# Altium schematic symbol library ESTEEMPCBLIB.SchLib: 601 symbols (part 5 of 5)
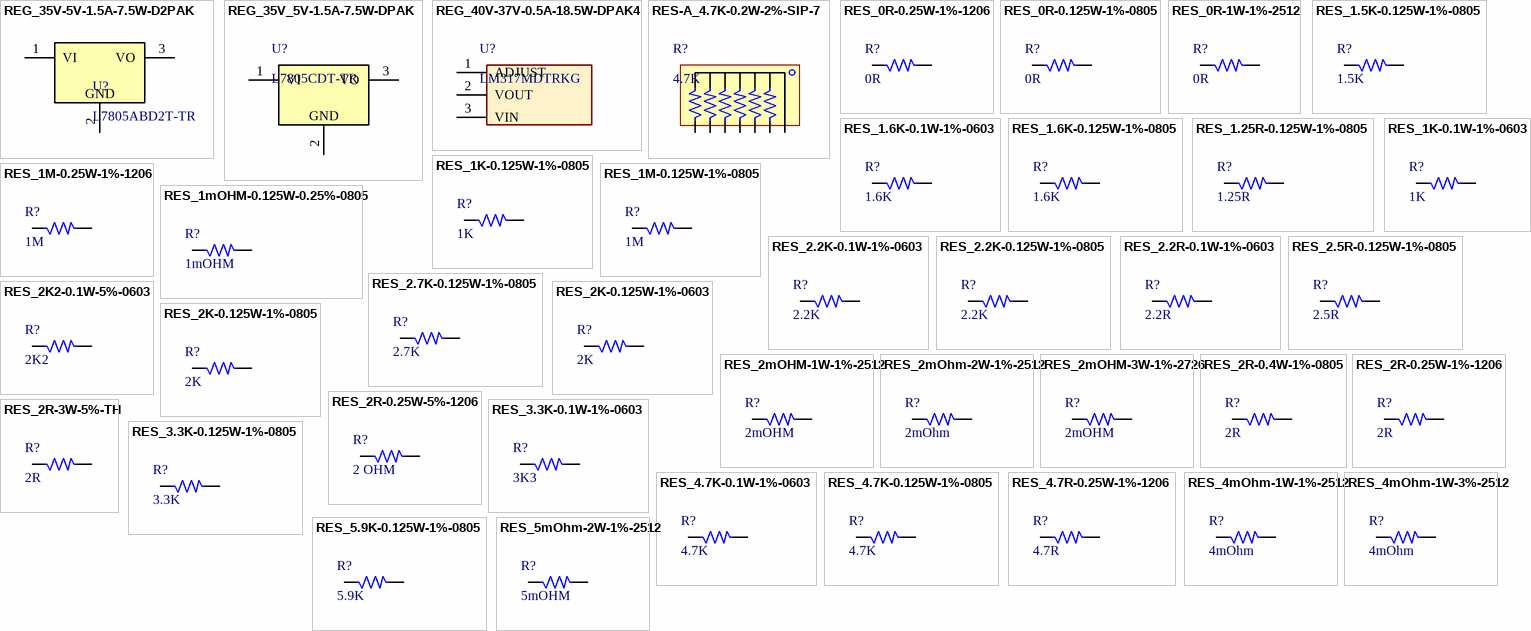
[diagram p20: symbols REG_35V-5V-1.5A-7.5W-D2PAK to RES_5mOhm-2W-1%-2512]

## RES_2.7K-0.125W-1%-0805
designator R?, comment 2.7K
2.7 kOhms ±1% 0.125W, 1/8W Chip Resistor 0805 (2012 Metric) Thick Film; Manufacturer: Stackpole Electronics; Manufacturer Part Number: 1623181-1; Alternate Part Number-1: NA; Case/Package: 0805; Supplier-1: SIRICOM; Supplier Part Number-1: WR08X2701FTL
footprint RES_0805 (Resister)
pins: 1, 2

## RES_2K2-0.1W-5%-0603
designator R?, comment 2K2
2.2 kOhms ±5% 0.1W, 1/10W Chip Resistor 0603 (1608 Metric) Automotive AEC-Q200 Thick Film; Manufacturer: Stackpole Electronics; Manufacturer Part Number: ERJ-3GEYJ222V; Alternate Part Number-1: WR06X2201FTL; Case/Package: 0603; Supplier-1: SIRICOM; Supplier Part Number-1: WR06X2201FTL
footprint RES_0603
pins: 1, 2

## RES_2K-0.125W-1%-0603
designator R?, comment 2K
2 kOhms ±1% 0.125W, 1/8W Chip Resistor 0603 (1608 Metric) Anti-Sulfur, Moisture Resistant Thin Film; Manufacturer: Stackpole Electronics; Manufacturer Part Number: RNCP0603FTD2K00; Alternate Part Number-1: NA; Case/Package: 0603; Supplier-1: SIRICOM; Supplier Part Number-1: WR06X2001FTL
footprint RES_0603
pins: 1, 2

## RES_2K-0.125W-1%-0805
designator R?, comment 2K
2 kOhms ±1% 0.125W, 1/8W Chip Resistor 0805 (2012 Metric) Moisture Resistant Thick Film; Manufacturer: TE Connectivity; Manufacturer Part Number: RC0805FR-072KL; Alternate Part Number-1: NA; Case/Package: 0805; Supplier-1: SIRICOM; Supplier Part Number-1: WR08X2001FTL
footprint RES_0805
pins: 1, 2

## RES_2mOHM-1W-1%-2512
designator R?, comment 2mOHM
0.002Ohms 3W 1% 2512 Current Sense Resistors - SMD; Manufacturer: Johanson; Manufacturer Part Number: RNC20EQ00R002FE; Alternate Part Number-1: NA; Case/Package: 2512; Supplier-1: Siricom; Supplier Part Number-1: NA
footprint RES_2512 (CASE: 2512)
pins: 1, 2

## RES_2mOhm-2W-1%-2512
designator R?, comment 2mOhm
0.002 Ohm 1% 2W Res Metal Strip 2512 ±100ppm/°C Pad SMD T/R; Manufacturer: NIC Components; Manufacturer Part Number: NCSS25EFR002TRNF; Alternate Part Number-1: NA; Case/Package: 2512; Supplier-1: Arrow; Supplier Part Number-1: NCSS25EFR002TRNF
footprint RES_2512 (CASE: 2512)
pins: 1, 2

## RES_2mOHM-3W-1%-2726
designator R?, comment 2mOHM
2 mOhms ±1% 3W Chip Resistor Nonstandard Anti-Sulfur, Automotive AEC-Q200, Current Sense, Moisture Resistant, Pulse Withstanding Metal Element; Manufacturer: TE Connectivity; Manufacturer Part Number: WSL27262L000FEB; Alternate Part Number-1: NA; Case/Package: 2726; Supplier-1: Mouser; Supplier Part Number-1: 71-WSL27262L000FEB
footprint RES_2726
pins: 1, 2

## RES_2R-0.4W-1%-0805
designator R?, comment 2R
2 Ohms ±1% 0.4W, 2/5W Chip Resistor 0805 (2012 Metric) Automotive AEC-Q200, Pulse Withstanding Thick Film; Manufacturer: Bourns; Manufacturer Part Number: ESR10EZPF2R00; Alternate Part Number-1: NA; Case/Package: 0805; Supplier-1: SIRICOM; Supplier Part Number-1: WR08W2R00FTL
footprint RES_0805
pins: 1, 2

## RES_2R-0.25W-1%-1206
designator R?, comment 2R
2 Ohms ±1% 0.25W, 1/4W Chip Resistor 1206 (3216 Metric) Moisture Resistant Thick Film; Manufacturer: Stackpole Electronics; Manufacturer Part Number: RC1206FR-072RL; Alternate Part Number-1: NA; Case/Package: 1206; Supplier-1: SP ROAD; Supplier Part Number-1: RC1206FR-072RL
footprint RES_1206
pins: 1, 2

## RES_2R-0.25W-5%-1206
designator R?, comment 2 OHM
2 Ohms ±5% 0.25W, 1/4W Chip Resistor 1206 (3216 Metric) Automotive AEC-Q200 Thick Film; Manufacturer: Stackpole Electronics; Manufacturer Part Number: ERJ-8GEYJ2R0V; Alternate Part Number-1: NA; Case/Package: 1206; Supplier-1: SIRICOM; Supplier Part Number-1: WR12X2R2JTL
footprint RES_1206
pins: 1, 2

## RES_2R-3W-5%-TH
designator R?, comment 2R
2 Ohms ±5% 3W Through Hole Resistor Axial Flame Retardant Coating, Pulse Withstanding, Safety Wirewound; Manufacturer: Riedon; Manufacturer Part Number: AC03000002008JAC00; Alternate Part Number-1: NA; Case/Package: TH; Supplier-1: SP ROAD; Supplier Part Number-1: AC03000002008JAC00
footprint RES_753_TH
footprint RES_753_TH_INDC
pins: 1, 2

## RES_3.3K-0.1W-1%-0603
designator R?, comment 3K3
3.3 kOhms ±1% 0.1W, 1/10W Chip Resistor 0603 (1608 Metric) Automotive AEC-Q200 Thick Film; Manufacturer: Wilson; Manufacturer Part Number: WR06X3301FTL; Alternate Part Number-1: 0603WAF3301T5E; Case/Package: 0603; Supplier-1: SIRICOM; Supplier Part Number-1: WR06X3301FTL
footprint RES_0603
pins: 1, 2

## RES_3.3K-0.125W-1%-0805
designator R?, comment 3.3K
3.3 kOhms ±1% 0.125W, 1/8W Chip Resistor 0805 (2012 Metric) Thick Film; Manufacturer: Panasonic; Manufacturer Part Number: 1623214-1; Alternate Part Number-1: 0805W8F3301T5E; Case/Package: 0805; Supplier-1: SIRICOM; Supplier Part Number-1: WR08X3301FTL
footprint RES_0805
pins: 1, 2

## RES_4.7K-0.1W-1%-0603
designator R?, comment 4.7K
4.7 kOhms ±1% 0.1W, 1/10W Chip Resistor 0603 (1608 Metric) Moisture Resistant Thick Film; Manufacturer: Walsin; Manufacturer Part Number: WR06X4701FTL; Alternate Part Number-1: MR06X4701FTL; Case/Package: 0603; Supplier-1: SIRICOM; Supplier Part Number-1: WR06X4701FTL
footprint RES_0603
pins: 1, 2

## RES_4.7K-0.125W-1%-0805
designator R?, comment 4.7K
4.7 kOhms ±1% 0.125W, 1/8W Chip Resistor 0805 (2012 Metric) Moisture Resistant Thick Film; Manufacturer: TE Connectivity; Manufacturer Part Number: RC0805FR-074K7L; Alternate Part Number-1: 0805W8F4701T5E; Case/Package: 0805; Supplier-1: SIRICOM; Supplier Part Number-1: WR08X4701FTL
footprint RES_0805
pins: 1, 2

## RES_4.7R-0.25W-1%-1206
designator R?, comment 4.7R
4.7 Ohms ±1% 0.25W, 1/2W Chip Resistor 1206 (3216 Metric) Current Sense Thin Film; Manufacturer: Walsin; Manufacturer Part Number: WR12W4R70FTL; Alternate Part Number-1: NA; Case/Package: 1206; Supplier-1: SIRICOM; Supplier Part Number-1: WR12W4R70FTL
footprint RES_1206
pins: 1, 2

## RES_4mOhm-1W-1%-2512
designator R?, comment 4mOhm
0.004 Ohm Res Metal Plate 2512  1% 1W ±75ppm/°C Pad SMD Automotive T/R; Manufacturer: Panasonic; Manufacturer Part Number: ERJMP4MF4M0U; Alternate Part Number-1: NA; Case/Package: 2512; Supplier-1: Arrow; Supplier Part Number-1: ERJMP4MF4M0U
footprint RES_2512 (CASE: 2512)
pins: 1, 2

## RES_4mOhm-1W-3%-2512
designator R?, comment 4mOhm
0.004 Ohm 3% Res Metal Strip 2512  1W ±100ppm/°C Pad SMD T/R; Manufacturer: NIC Components; Manufacturer Part Number: NCSR100HR004ETRF; Alternate Part Number-1: NA; Case/Package: 2512; Supplier-1: Arrow; Supplier Part Number-1: NCSR100HR004ETRF
footprint RES_2512 (CASE: 2512)
pins: 1, 2

## RES_5.9K-0.125W-1%-0805
designator R?, comment 5.9K
5.9 kOhms ±1% 0.125W, 1/8W Chip Resistor 0805 (2012 Metric) Moisture Resistant Thick Film; Manufacturer: Stackpole Electronics; Manufacturer Part Number: RC0805FR-075K9L; Alternate Part Number-1: NA; Case/Package: 0805; Supplier-1: SIRICOM; Supplier Part Number-1: WR08X5901FTL
footprint RES_0805 (Resister)
pins: 1, 2

## RES_5mOhm-2W-1%-2512
designator R?, comment 5mOHM
5 mOhms ±1% 2W Chip Resistor 2512 (6432 Metric) Automotive AEC-Q200, Current Sense Thick Film; Manufacturer: TE Connectivity; Manufacturer Part Number: PMR100HZPFU5L00; Alternate Part Number-1: MSH2512N2W0R005F; Case/Package: 2512; Supplier-1: ARROW; Supplier Part Number-1: PMR100HZPFU5L00
footprint RES_2512
pins: 1, 2

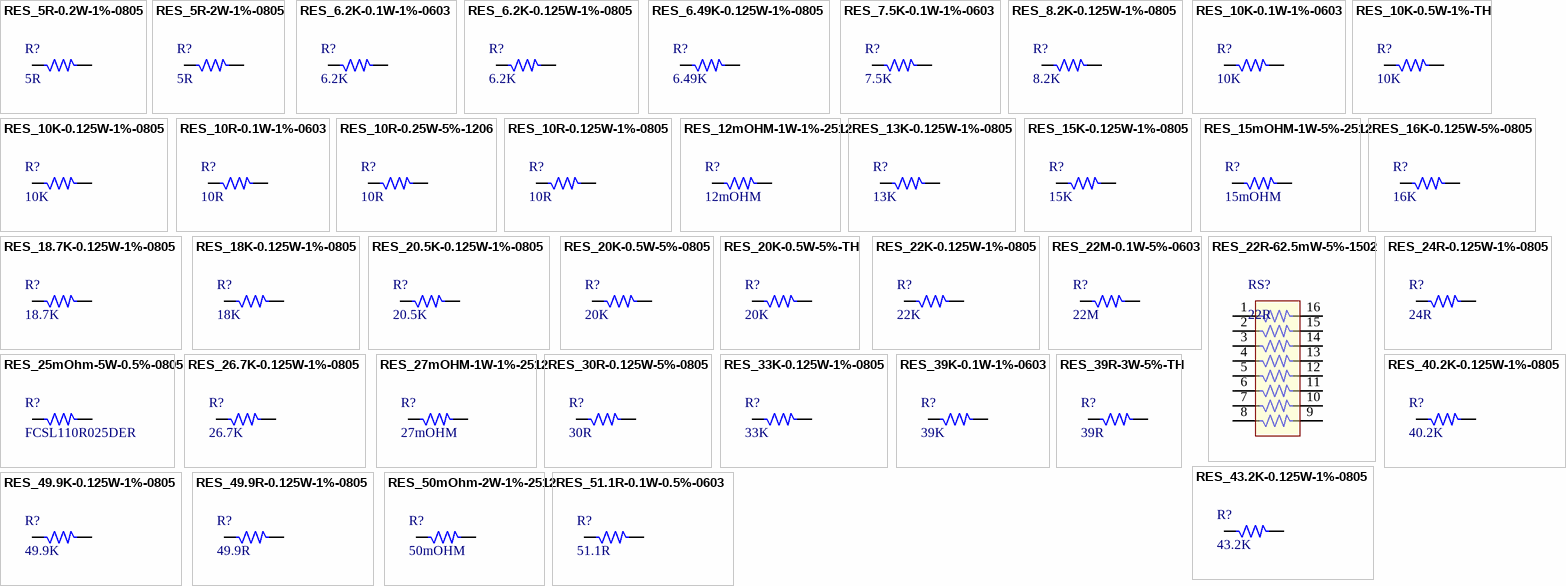
[diagram p14: symbols RES_5R-0.2W-1%-0805 to RES_51.1R-0.1W-0.5%-0603]

## RES_5R-0.2W-1%-0805
designator R?, comment 5R
5 Ohms ±1% 0.2W, 1/5W Chip Resistor 0805 (2012 Metric) Moisture Resistant, Non-Inductive Metal Foil; Manufacturer: Yageo; Manufacturer Part Number: Y16245R00000F9W; Alternate Part Number-1: NA; Case/Package: 0805; Supplier-1: SIRICOM; Supplier Part Number-1: WR08W5R10FTL
footprint RES_0805
pins: 1, 2

## RES_5R-2W-1%-0805
designator R?, comment 5R
5 Ohm 1% 300PPM Thin Film Resistors - SMD; Manufacturer: Panasonic; Manufacturer Part Number: L-0805M5R00FGTS; Alternate Part Number-1: NA; Case/Package: 0805; Supplier-1: SIRICOM; Supplier Part Number-1: WR08W5R10FTL
footprint RES_0805
pins: 1, 2

## RES_6.2K-0.1W-1%-0603
designator R?, comment 6.2K
6.2 kOhms ±1% 0.1W, 1/10W Chip Resistor 0603 (1608 Metric) Moisture Resistant Thick Film; Manufacturer: Walsin; Manufacturer Part Number: WR06X6201FTL; Alternate Part Number-1: 0603WAF6201T5E; Case/Package: 0603; Supplier-1: SIRICOM; Supplier Part Number-1: WR06X6201FTL
footprint RES_0603
pins: 1, 2

## RES_6.2K-0.125W-1%-0805
designator R?, comment 6.2K
6.2 kOhms ±1% 0.125W, 1/8W Chip Resistor 0805 (2012 Metric) Moisture Resistant Thick Film; Manufacturer: Stackpole Electronics; Manufacturer Part Number: RC0805FR-076K2L; Alternate Part Number-1: NA; Case/Package: 0805; Supplier-1: SIRICOM; Supplier Part Number-1: WR06X6201FTL
footprint RES_0805
pins: 1, 2

## RES_6.49K-0.125W-1%-0805
designator R?, comment 6.49K
6.49 kOhms ±1% 0.125W, 1/8W Chip Resistor 0805 (2012 Metric) Moisture Resistant Thick Film; Manufacturer: Stackpole Electronics; Manufacturer Part Number: RC0805FR-076K49L; Alternate Part Number-1: NA; Case/Package: 0805; Supplier-1: SIRICOM; Supplier Part Number-1: WRO8X6491FTL
footprint RES_0805 (Resister)
pins: 1, 2

## RES_7.5K-0.1W-1%-0603
designator R?, comment 7.5K
7.5 kOhms ±1% 0.1W, 1/10W Chip Resistor 0603 (1608 Metric) Moisture Resistant Thick Film; Manufacturer: Yageo; Manufacturer Part Number: RC0603FR-077K5L; Alternate Part Number-1: NA; Case/Package: 0603; Supplier-1: SIRICOM; Supplier Part Number-1: NA
footprint RES_0603 (CASE: 0603)
pins: 1, 2

## RES_8.2K-0.125W-1%-0805
designator R?, comment 8.2K
8.2 kOhms ±1% 0.125W, 1/8W Chip Resistor 0805 (2012 Metric) Anti-Sulfur, Moisture Resistant, Non-Inductive Metal Foil; Manufacturer: Walsin; Manufacturer Part Number: WR08X8201FTL; Alternate Part Number-1: NA; Case/Package: 0805; Supplier-1: SIRICOM; Supplier Part Number-1: WR08X8061FTL
footprint RES_0805
pins: 1, 2

## RES_10K-0.1W-1%-0603
designator R?, comment 10K
10 kOhms ±1% 0.1W, 1/10W Chip Resistor 0603 (1608 Metric) Automotive AEC-Q200 Thick Film; Manufacturer: Walsin; Manufacturer Part Number: WR06X1002FTL; Alternate Part Number-1: 0603WAJ0103T5E; Case/Package: 0603; Supplier-1: SIRICOM; Supplier Part Number-1: WR06X1002FTL
footprint RES_0603
pins: 1, 2

## RES_10K-0.5W-1%-TH
designator R?, comment 10K
10 kOhms ±1% 0.5W, 1/2W Through Hole Resistor Axial Metal Film / AXIAL; Manufacturer: Vishay BCcomponents; Manufacturer Part Number: SFR16S0001002FR500; Alternate Part Number-1: NA; Supplier 1: Digi-Key; Case/Package: Axial; ComponentLink1URL: https://datasheet.ciiva.com/28561/1911160-28561605.pdf?src-supplier=Element14; ComponentLink1Description: https://datasheet.ciiva.com/28561/1911160-28561605.pdf?src-supplier=Element14; ComponentLink2URL: https://datasheet.ciiva.com/16720/70122463-16720294.pdf?src-supplier=Allied+Electronics; ComponentLink2Description: https://datasheet.ciiva.com/16720/70122463-16720294.pdf?src-supplier=Allied+Electronics; ComponentLink3URL: https://datasheet.ciiva.com/2710/sfr16s25-2710487.pdf?src-supplier=Digi-Key; ComponentLink3Description: https://datasheet.ciiva.com/2710/sfr16s25-2710487.pdf?src-supplier=Digi-Key; ComponentLink4URL: https://datasheet.ciiva.com/2710/sfr16s25-2710488.pdf?src-supplier=Digi-Key; ComponentLink4Description: https://datasheet.ciiva.com/2710/sfr16s25-2710488.pdf?src-supplier=Digi-Key; ComponentLink5URL: https://datasheet.ciiva.com/7182/1819489-7182845.pdf?src-supplier=Newark; ComponentLink5Description: https://datasheet.ciiva.com/7182/1819489-7182845.pdf?src-supplier=Newark; ComponentLink6URL: https://datasheet.ciiva.com/16291/sfr16s25-16291262.pdf?src-supplier=Future+Electronics; ComponentLink6Description: https://datasheet.ciiva.com/16291/sfr16s25-16291262.pdf?src-supplier=Future+Electronics; ComponentLink7URL: https://datasheet.ciiva.com/3260/sfr16s25-3260959.pdf?src-supplier=Avnet; ComponentLink7Description: https://datasheet.ciiva.com/3260/sfr16s25-3260959.pdf?src-supplier=Avnet; Supplier Part Number-1: PPC10.0KXCT-ND; Supplier-1: SIRICOM
footprint RES_753_TH_INDC (CASE: TH)
pins: 1, 2

## RES_10K-0.125W-1%-0805
designator R?, comment 10K
10 kOhms ±1% 0.125W, 1/8W Chip Resistor 0805 (2012 Metric) Automotive AEC-Q200 Thick Film; Manufacturer: CTS; Manufacturer Part Number: WR08X1002FTL; Case/Package: 0805; Supplier-1: SIRICOM; Supplier Part Number-1: WR08X1002FTL; Alternate Part Number-1: WR08X1002FTL
footprint RES_0805
pins: 1, 2

## RES_10R-0.1W-1%-0603
designator R?, comment 10R
10 Ohms ±1% 0.1W, 1/10W Chip Resistor 0603 (1608 Metric) Automotive AEC-Q200, Moisture Resistant Thick Film; Manufacturer: Walsin; Manufacturer Part Number: WR06X10R0FTL; Alternate Part Number-1: RS-03K10R0FT; Case/Package: 0603; Supplier-1: SIRICOM; Supplier Part Number-1: WR06X10R0FTL
footprint RES_0603
pins: 1, 2

## RES_10R-0.25W-5%-1206
designator R?, comment 10R
10 Ohms ±5% 0.25W, 1/4W Chip Resistor 1206 (3216 Metric) Automotive AEC-Q200 Thick Film; Manufacturer: Yageo; Manufacturer Part Number: RMCF1206JT10R0; Alternate Part Number-1: NA; Case/Package: 1206; Supplier-1: SIRICOM; Supplier Part Number-1: WR12X10R0FTL
footprint RES_1206
pins: 1, 2

## RES_10R-0.125W-1%-0805
designator R?, comment 10R
10 Ohms ±1% 0.125W, 1/8W Chip Resistor 0805 (2012 Metric) Automotive AEC-Q200 Thick Film; Manufacturer: Walsin; Manufacturer Part Number: WR08X10R0FTL; Alternate Part Number-1: CR0805F810R0G; Case/Package: 0805; Supplier-1: SIRICOM; Supplier Part Number-1: WR08X10R0FTL
footprint RES_0805
pins: 1, 2

## RES_12mOHM-1W-1%-2512
designator R?, comment 12mOHM
12 mOhms ±1% 1W Chip Resistor 2512 (6432 Metric) Automotive AEC-Q200, Current Sense, Moisture Resistant Thick Film; Manufacturer: Yageo; Manufacturer Part Number: RL2512FK-070R012L; Alternate Part Number-1: 25121WJ012LT4E; Case/Package: 2512; Supplier-1: SIRICOM; Supplier Part Number-1: WW25NR015FTL
footprint RES_2512 (CASE: 2512)
pins: 1, 2

## RES_13K-0.125W-1%-0805
designator R?, comment 13K
13 kOhms ±1% 0.125W, 1/8W Chip Resistor 0805 (2012 Metric) Thick Film; Manufacturer: TE Connectivity Passive Product; Manufacturer Part NUMMBER: CRG0805F13K; Manufacturer Part Number: NA; Case/Package: 0805; Supplier-1: Siricom; Supplier Part Number-1: NA; Alternate Part Number-1: NA
footprint RES_0805 (Resister)
pins: 1, 2

## RES_15K-0.125W-1%-0805
designator R?, comment 15K
15 kOhms ±1% 0.125W, 1/8W Chip Resistor 0805 (2012 Metric) Moisture Resistant Thick Film; Manufacturer: Walsin; Manufacturer Part Number: WR08X1502FTL; Alternate Part Number-1: NA; Case/Package: 0805; Supplier-1: SIRICOM; Supplier Part Number-1: WR08X1502FTL
footprint RES_0805
pins: 1, 2

## RES_15mOHM-1W-5%-2512
designator R?, comment 15mOHM
15 MOhms ±5% 1W Chip Resistor 2512 (6432 Metric) High Voltage, Non-Magnetic Thick Film; Manufacturer: Yageo; Manufacturer Part Number: HVS2512-15MJ8; Alternate Part Number-1: NA; Case/Package: 2512; Supplier-1: SIRICOM; Supplier Part Number-1: WW25NR015FTL
footprint RES_2512
pins: 1, 2

## RES_16K-0.125W-5%-0805
designator R?, comment 16K
16 kOhms ±5% 0.125W, 1/8W Chip Resistor 0805 (2012 Metric) Moisture Resistant Thick Film; Manufacturer: Panasonic; Manufacturer Part Number: RC0805JR-0716KL; Alternate Part Number-1: NA; Case/Package: 0805; Supplier-1: SIRICOM; Supplier Part Number-1: WR08X1502FTL
footprint RES_0805
pins: 1, 2

## RES_18.7K-0.125W-1%-0805
designator R?, comment 18.7K
18.7 kOhms ±1% 0.125W, 1/8W Chip Resistor 0805 (2012 Metric) Automotive AEC-Q200 Thick Film; Manufacturer: Yageo; Manufacturer Part Number: RMCF0805FT18K7; Alternate Part Number-1: NA; Case/Package: 0805; Supplier-1: SIRICOM; Supplier Part Number-1: WR08X1872FTL
footprint RES_0805 (Resister)
pins: 1, 2

## RES_18K-0.125W-1%-0805
designator R?, comment 18K
18 kOhms ±1% 0.125W, 1/8W Chip Resistor 0805 (2012 Metric) Thick Film; Manufacturer: TE Connectivity Passive Product; Manufacturer Part Number: CRG0805F18K; Alternate Part Number-1: NA; Case/Package: 0805; Supplier-1: SIRICOM; Supplier Part Number: NA; Supplier Part Number-1: NA
footprint RES_0805 (Resister)
pins: 1, 2

## RES_20.5K-0.125W-1%-0805
designator R?, comment 20.5K
20.5 kOhms ±1% 0.125W, 1/8W Chip Resistor 0805 (2012 Metric) Moisture Resistant Thick Film; Manufacturer: Vishay; Manufacturer Part Number: RC0805FR-0720K5L; Alternate Part Number-1: NA; Case/Package: 0805; Supplier-1: SIRICOM; Supplier Part Number-1: WR08X2052FTL
footprint RES_0805 (Resister)
pins: 1, 2

## RES_20K-0.5W-5%-0805
designator R?, comment 20K
20 kOhms ±5% 0.5W, 1/2W Chip Resistor 0805 (2012 Metric) Automotive AEC-Q200, Pulse Withstanding Thick Film; Manufacturer: Panasonic; Manufacturer Part Number: ERJ-P06J203V; Alternate Part Number-1: NA; Case/Package: 0805; Supplier-1: SIRICOM; Supplier Part Number-1: WR08X2002FTL
footprint RES_0805
pins: 1, 2

## RES_20K-0.5W-5%-TH
designator R?, comment 20K
20 kOhms ±5% 0.5W, 1/2W Through Hole Resistor Axial Flame Retardant Coating, Safety Carbon Film; Manufacturer: Rohm; Manufacturer Part Number: CFM12JT20K0; Alternate Part Number-1: NA; Case/Package: TH; Supplier-1: SP ROAD; Supplier Part Number-1: CFM12JT20K0
footprint RES_393_TH (RESISTER)
pins: 1, 2

## RES_22K-0.125W-1%-0805
designator R?, comment 22K
22 kOhms ±1% 0.125W, 1/8W Chip Resistor 0805 (2012 Metric) Automotive AEC-Q200 Thick Film; Manufacturer: Walsin; Manufacturer Part Number: WR08X2202FTL; Alternate Part Number-1: NA; Case/Package: 0805; Supplier-1: SIRICOM; Supplier Part Number-1: WR08X2202FTL
footprint RES_0805
pins: 1, 2

## RES_22M-0.1W-5%-0603
designator R?, comment 22M
22M ±5% 1/10W ±100ppm/°C 0603 Chip Resistor - Surface Mount RoHS; Manufacturer: UNI-ROYAL(Uniroyal Elec); Manufacturer Part Number: 0603WAJ0226T5E; Alternate Part Number-1: NA; Case/Package: 0603; Supplier-1: LCSC; Supplier Part Number-1: C33143
footprint RES_0603 (CASE: 0603)
pins: 1, 2

## RES_22R-62.5mW-5%-1502
designator RS?, comment 22R
22 Ohm ±5% 62.5mW Power Per Element Isolated Resistor Network/Array ±200ppm/°C 1506, Convex, Long Side Terminals; Manufacturer: Riedon; Manufacturer Part Number: 741X163220JP; Alternate Part Number-1: NA; Case/Package: 1502; Supplier-1: SIRICOM; Supplier Part Number-1: WR12X22R0FTL
footprint RES_1506 (RES-ARRAY)
pins: 1, 2, 3 1, 4 1, 5 1, 6 1, 7 1, 8 1, 9 2, 10 2, 11 2, 12 2, 13 2, 14 2, 15 2, 16 2

## RES_24R-0.125W-1%-0805
designator R?, comment 24R
24 Ohms ±0.5% 0.1W, 1/10W Chip Resistor 0805 (2012 Metric) Moisture Resistant Thin Film; Manufacturer: TE Connectivity; Manufacturer Part Number: RN732ATTD24R0D50; Alternate Part Number-1: NA; Case/Package: 0805; Supplier-1: SIRICOM; Supplier Part Number-1: WR08X24R0FTL
footprint RES_0805
pins: 1, 2

## RES_25mOhm-5W-0.5%-0805
designator R?, comment FCSL110R025DER
25 mOhms ±0.5% 5W Chip Resistor Wide 4320 (11050 Metric), 2043 Current Sense, Moisture Resistant Metal Foil; Manufacturer: Yageo; Alternate Part Number-1: NA; Manufacturer Part Number: FCSL110R025DER; Case/Package: 0805; Supplier-1: Mouser; Supplier Part Number-1: 588-FCSL110R025DER
footprint RES_0805
pins: 1, 2

## RES_26.7K-0.125W-1%-0805
designator R?, comment 26.7K
26.7 kOhms ±1% 0.125W, 1/8W Chip Resistor 0805 (2012 Metric) Moisture Resistant Thick Film; Manufacturer: Yageo; Manufacturer Part Number: RC0805FR-0726K7L; Alternate Part Number-1: NA; Case/Package: 0805; Supplier-1: SIRICOM; Supplier Part Number-1: WR08X2672FTL
footprint RES_0805 (Resister)
pins: 1, 2

## RES_27mOHM-1W-1%-2512
designator R?, comment 27mOHM
27 mOhms ±1% 1W Chip Resistor 2512 (6432 Metric) Automotive AEC-Q200, Current Sense, Moisture Resistant Thick Film; Manufacturer: Yageo; Manufacturer Part Number: RL2512FK-070R027L; Alternate Part Number-1: 25121WJ027LT4E; Case/Package: 2512; Supplier-1: Aliepress; Supplier Part Number-1: WSL2512R027OF
footprint RES_2512 (CASE: 2512)
pins: 1, 2

## RES_30R-0.125W-5%-0805
designator R?, comment 30R
30 Ohms ±5% 0.125W, 1/8W Chip Resistor 0805 (2012 Metric) Moisture Resistant Thick Film; Manufacturer: Stackpole Electronics; Manufacturer Part Number: RC0805JR-0730RL; Alternate Part Number-1: NA; Case/Package: 0805; Supplier-1: SIRICOM; Supplier Part Number-1: WR08X30R0FTL
footprint RES_0805
pins: 1, 2

## RES_33K-0.125W-1%-0805
designator R?, comment 33K
Thick Film Resistors - SMD 33KOhms 1/8W 150V33 kOhms ±1% 0.125W, 1/8W Chip Resistor 0805 (2012 Metric) Thick Film; Manufacturer: Vishay BCcomponents; Manufacturer Part Number: CRG0805F33K; Alternate Part Number-1: NA; Case/Package: 0805; Supplier-1: SIRICOM; Supplier Part Number-1: WR08X3302FTL
footprint RES_0805
pins: 1, 2

## RES_39K-0.1W-1%-0603
designator R?, comment 39K
39 kOhms ±1% 0.1W, 1/10W Chip Resistor 0603 (1608 Metric) Automotive AEC-Q200, Moisture Resistant Thick Film; Manufacturer: TE Connectivity Passive Product; Manufacturer Part Number: CRGCQ0603F39K; Alternate Part Number-1: NA; Case/Package: 0603; Supplier-1: SIRICOM; Supplier Part Number-1: NA
footprint RES_0603 (CASE: 0603)
pins: 1, 2

## RES_39R-3W-5%-TH
designator R?, comment 39R
39 Ohms ±5% 3W Through Hole Resistor Axial Flame Proof, Safety Wirewound; Manufacturer: Stackpole Electronics; Manufacturer Part Number: RWM041039R0JR15E1; Alternate Part Number-1: NA; Case/Package: TH; Supplier-1: Mouser; Supplier Part Number-1: 72-RWM410-39-5
footprint RES_669_551X197_TH
pins: 1, 2

## RES_40.2K-0.125W-1%-0805
designator R?, comment 40.2K
40.2 kOhms ±1% 0.125W, 1/8W Chip Resistor 0805 (2012 Metric) Automotive AEC-Q200 Thick Film; Manufacturer: TE Connectivity; Manufacturer Part Number: RMCF0805FT40K2; Alternate Part Number-1: NA; Case/Package: 0805; Supplier-1: SIRICOM; Supplier Part Number-1: WR08X4022FTL
footprint RES_0805 (Resister)
pins: 1, 2

## RES_43.2K-0.125W-1%-0805
designator R?, comment 43.2K
43.2 kOhms ±1% 0.125W, 1/8W Chip Resistor 0805 (2012 Metric) Moisture Resistant Thick Film; Manufacturer: TE Connectivity; Manufacturer Part Number: RC0805FR-0743K2L; Alternate Part Number-1: NA; Case/Package: 0805; Supplier-1: SIRICOM; Supplier Part Number-1: WR08X4322FTL
footprint RES_0805 (Resister)
pins: 1, 2

## RES_49.9K-0.125W-1%-0805
designator R?, comment 49.9K
49.9 kOhms ±1% 0.125W, 1/8W Chip Resistor 0805 (2012 Metric) Anti-Sulfur, Automotive AEC-Q200 Thick Film; Manufacturer: Stackpole Electronics; Manufacturer Part Number: RCA080549K9FKEA; Alternate Part Number-1: NA; Case/Package: 0805; Supplier-1: SP ROAD; Supplier Part Number-1: RCA080549K9FKEA
footprint RES_0805
pins: 1, 2

## RES_49.9R-0.125W-1%-0805
designator R?, comment 49.9R
49.9 Ohms ±1% 0.125W, 1/8W Chip Resistor 0805 (2012 Metric) Moisture Resistant Metal Film; Manufacturer: Vishay Sfernice; Manufacturer Part Number: WR12X49R9FTL; Alternate Part Number-1: RS-05K49R9FT; Case/Package: 0805; Supplier-1: SIRICOM; Supplier Part Number-1: WR12X49R9FTL
footprint RES_0805
pins: 1, 2

## RES_50mOhm-2W-1%-2512
designator R?, comment 50mOHM
50 mOhms ±1% 2W Chip Resistor 2512 (6432 Metric) Automotive AEC-Q200, Current Sense, Moisture Resistant Metal Element; Manufacturer: Yageo; Manufacturer Part Number: PA2512FKF7W0R05E; Alternate Part Number-1: PMR100HZPFU5L00; Case/Package: 2512; Supplier-1: SIRICOM; Supplier Part Number-1: LR2512-22R060F1
footprint RES_2512
pins: 1, 2

## RES_51.1R-0.1W-0.5%-0603
designator R?, comment 51.1R
pins: 1, 2

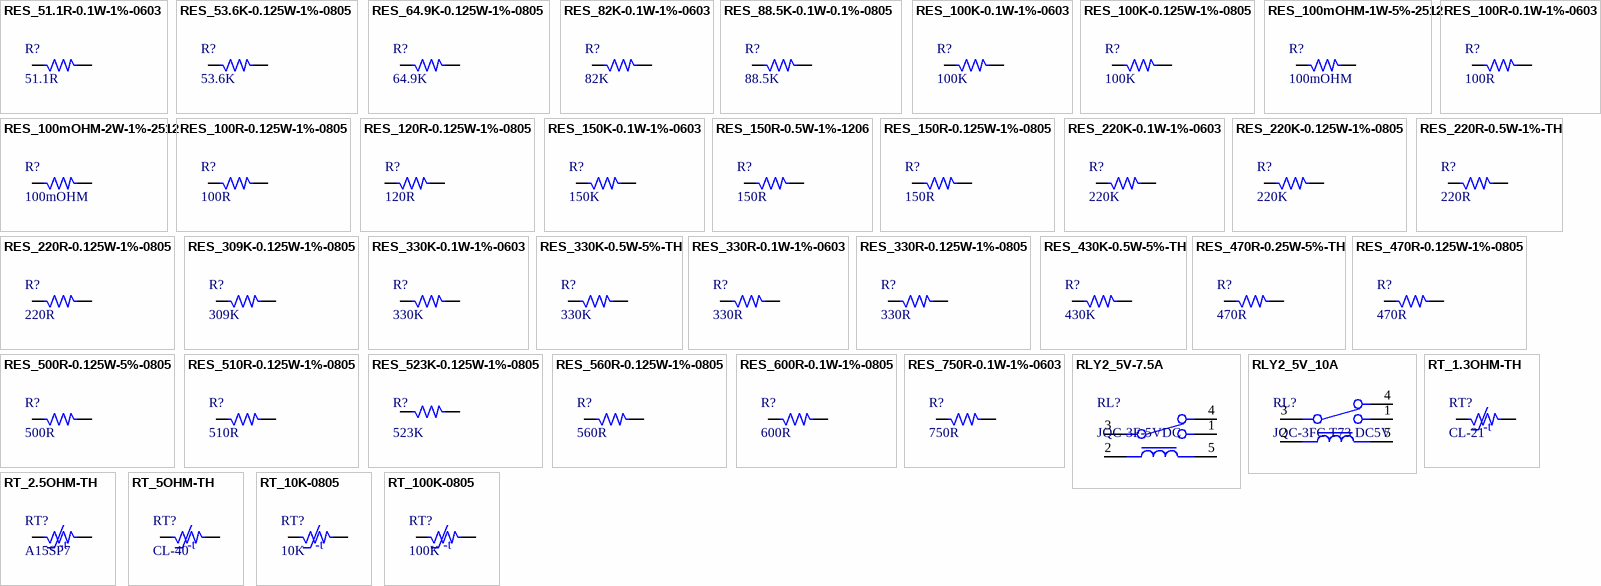
[diagram p15: symbols RES_51.1R-0.1W-1%-0603 to RT_100K-0805]

## RES_51.1R-0.1W-1%-0603
designator R?, comment 51.1R
51.1 Ohms ±1% 0.1W, 1/10W Chip Resistor 0603 (1608 Metric) Thick Film; Manufacturer: Vishay Dale; Manufacturer Part Number: CRCW060351R1FKEAC; Alternate Part Number-1: NA; Case/Package: 0603; Supplier-1: Digikey; Supplier Part Number-1: 541-5468-1-ND - Cut Tape (CT)
footprint RES_0603 (CASE: 0603)
pins: 1, 2

## RES_53.6K-0.125W-1%-0805
designator R?, comment 53.6K
53.6 kOhms ±1% 0.125W, 1/8W Chip Resistor 0805 (2012 Metric) Moisture Resistant Thick Film; Manufacturer: Susumu; Manufacturer Part Number: RC0805FR-0753K6L; Alternate Part Number-1: NA; Case/Package: 0805; Supplier-1: SIRICOM; Supplier Part Number-1: WR08X5362FTL
footprint RES_0805 (Resister)
pins: 1, 2

## RES_64.9K-0.125W-1%-0805
designator R?, comment 64.9K
64.9 kOhms ±1% 0.125W, 1/8W Chip Resistor 0805 (2012 Metric) Moisture Resistant Thick Film; Manufacturer: Yageo; Manufacturer Part Number: RC0805FR-0764K9L; Alternate Part Number-1: NA; Case/Package: 0805; Supplier-1: Siricom; Supplier Part Number-1: NA
footprint RES_0805 (Resister)
pins: 1, 2

## RES_82K-0.1W-1%-0603
designator R?, comment 82K
82 kOhms ±1% 0.125W, 1/8W Chip Resistor 0603 (1608 Metric) Anti-Sulfur Thin Film; Manufacturer: Vishay Beyschlag; Manufacturer Part Number: MCT06030C8202FP500; Alternate Part Number-1: NA; Case/Package: 0603; Supplier-1: SIRICOM; Supplier Part Number-1: NA
footprint RES_0603 (CASE: 0603)
pins: 1, 2

## RES_88.5K-0.1W-0.1%-0805
designator R?, comment 88.5K
88.5 kOhms ±0.1% 0.1W, 1/10W Chip Resistor 0805 (2012 Metric) Anti-Corrosive, Automotive AEC-Q200, Moisture Resistant Thin Film; Manufacturer: Stackpole Electronics; Manufacturer Part Number: RNCS0805BTE88K5; Alternate Part Number-1: NA; Case/Package: 0805; Supplier-1: SIRICOM; Supplier Part Number-1: WR08X8872FTL
footprint RES_0805 (Resister)
pins: 1, 2

## RES_100K-0.1W-1%-0603
designator R?, comment 100K
100 kOhms ±1% 0.1W, 1/10W Chip Resistor 0603 (1608 Metric) Automotive AEC-Q200 Thick Film; Manufacturer: Stackpole Electronics; Manufacturer Part Number: RMCF0603FT100K; Alternate Part Number-1: NA; Case/Package: 0603; Supplier-1: Arrow; Supplier Part Number-1: RMCF0603FT100K
footprint RES_0603 (CASE: 0603)
pins: 1, 2

## RES_100K-0.125W-1%-0805
designator R?, comment 100K
100 kOhms ±1% 0.125W, 1/8W Chip Resistor 0805 (2012 Metric) Automotive AEC-Q200 Thick Film; Manufacturer: Walsin; Manufacturer Part Number: WR08X1003FTL; Alternate Part Number-1: NA; Case/Package: 0805; Supplier-1: SIRICOM; Supplier Part Number-1: WR08X1003FTL
footprint RES_0805
pins: 1, 2

## RES_100mOHM-1W-5%-2512
designator R?, comment 100mOHM
100 mOhms ±5% 1W Chip Resistor 2512 (6432 Metric) High Voltage, Non-Magnetic Thick Film; Manufacturer: CTS Resistor Products; Manufacturer Part Number: 73L7R10J; Alternate Part Number-1: CR2512J0R12E04; Case/Package: 2512; Supplier-1: SP ROAD; Supplier Part Number-1: NA
footprint RES_2512
pins: 1, 2

## RES_100mOHM-2W-1%-2512
designator R?, comment 100mOHM
100 mOhms ±1% 2W Chip Resistor 2512 (6432 Metric) Automotive AEC-Q200, Current Sense, Moisture Resistant Thick Film; Manufacturer: Stackpole Electronics; Manufacturer Part Number: RCWE2512R100FKEA; Alternate Part Number-1: NA; Case/Package: 2512; Supplier-1: SIRICOM; Supplier Part Number-1: RCWE2512R100FKEA
footprint RES_2512
pins: 1, 2

## RES_100R-0.1W-1%-0603
designator R?, comment 100R
100 Ohms ±1% 0.1W, 1/10W Chip Resistor 0603 (1608 Metric) Thick Film; Manufacturer: Walsin; Manufacturer Part Number: WR06X1000FTL; Alternate Part Number-1: MR06X1000FTL; Case/Package: 0603; Supplier-1: SIRICOM; Supplier Part Number-1: WALSIN:WR06X1000FTL
footprint RES_0603
pins: 1, 2

## RES_100R-0.125W-1%-0805
designator R?, comment 100R
100 Ohms ±1% 0.125W, 1/8W Chip Resistor 0805 (2012 Metric) Automotive AEC-Q200, Pulse Withstanding Thick Film; Manufacturer: Walsin; Manufacturer Part Number: WR08X1000FTL; Case/Package: 0805; Supplier-1: SIRICOM; Supplier Part Number-1: WR08X1000FTL; Alternate Part Number-1: WR08X1000FTL
footprint RES_0805
pins: 1, 2

## RES_120R-0.125W-1%-0805
designator R?, comment 120R
120 Ohms ±1% 0.125W, 1/8W Chip Resistor 0805 (2012 Metric) Automotive AEC-Q200, Moisture Resistant Thick Film; Manufacturer: Stackpole Electronics; Manufacturer Part Number: CRGCQ0805F120R; Alternate Part Number-1: NA; Case/Package: 0805; Supplier-1: SIRICOM; Supplier Part Number-1: WR08X1200FTL
footprint RES_0805 (Resister)
pins: 1, 2

## RES_150K-0.1W-1%-0603
designator R?, comment 150K
150 kOhms ±1% 0.1W, 1/10W Chip Resistor 0603 (1608 Metric) Moisture Resistant Thick Film; Manufacturer: Yageo; Manufacturer Part Number: RC0603FR-07150KL; Alternate Part Number-1: NA; Case/Package: 0603; Supplier-1: SIRICOM; Supplier Part Number-1: NA
footprint RES_0603 (CASE: 0603)
pins: 1, 2

## RES_150R-0.5W-1%-1206
designator R?, comment 150R
150 Ohms ±1% 0.5W, 1/2W Chip Resistor 1206 (3216 Metric) Anti-Sulfur, Moisture Resistant Thin Film; Manufacturer: KOA Speer; Manufacturer Part Number: RNCP1206FTD150R; Alternate Part Number-1: NA; Case/Package: 1206; Supplier-1: SIRICOM; Supplier Part Number-1: WF12P1500FTL
footprint RES_1206
pins: 1, 2

## RES_150R-0.125W-1%-0805
designator R?, comment 150R
150 Ohms ±1% 0.125W, 1/8W Chip Resistor 0805 (2012 Metric) Automotive AEC-Q200 Thick Film; Manufacturer: Walsin; Manufacturer Part Number: WR08X1500FTL; Alternate Part Number-1: NA; Case/Package: 0805; Supplier-1: SIRICOM; Supplier Part Number-1: WR12X1500FTL
footprint RES_0805
pins: 1, 2

## RES_220K-0.1W-1%-0603
designator R?, comment 220K
220 kOhms ±1% 0.1W, 1/10W Chip Resistor 0603 (1608 Metric) Automotive AEC-Q200 Thick Film; Manufacturer: Vishay Dale; Manufacturer Part Number: RMCF0603JT220K; Alternate Part Number-1: WR06X2203FTL; Case/Package: 0603; Supplier-1: SIRICOM; Supplier Part Number-1: WR06X2203FTL
footprint RES_0603
pins: 1, 2

## RES_220K-0.125W-1%-0805
designator R?, comment 220K
220 kOhms ±1% 0.125W, 1/8W Chip Resistor 0805 (2012 Metric) Automotive AEC-Q200 Thick Film; Manufacturer: Walsin; Manufacturer Part Number: WR08X2203FTL; Alternate Part Number-1: NA; Case/Package: 0805; Supplier-1: SIRICOM; Supplier Part Number-1: WR08X2203FTL
footprint RES_0805
pins: 1, 2

## RES_220R-0.5W-1%-TH
designator R?, comment 220R
220 Ohms ±1% 0.5W, 1/2W Through Hole Resistor Axial Flame Retardant Coating, Moisture Resistant, Safety Metal Film; Manufacturer: Ohmite; Manufacturer Part Number: CMF55220R00FHEK; Alternate Part Number-1: NA; Case/Package: TH; Supplier-1: Arrow; Supplier Part Number-1: CMF55220R00FHEK
footprint RES_319_TH
pins: 1, 2

## RES_220R-0.125W-1%-0805
designator R?, comment 220R
220 Ohms ±1% 0.125W, 1/8W Chip Resistor 0805 (2012 Metric) Automotive AEC-Q200 Thick Film; Manufacturer: Walsin; Manufacturer Part Number: WR08X2200FTL; Alternate Part Number-1: RS-05K2200FT; Case/Package: 0805; Supplier-1: SIRICOM; Supplier Part Number-1: WR08X2200FTL
footprint RES_0805
pins: 1, 2

## RES_309K-0.125W-1%-0805
designator R?, comment 309K
309 kOhms ±1% 0.125W, 1/8W Chip Resistor 0805 (2012 Metric) Moisture Resistant Thick Film; Manufacturer: Yageo; Manufacturer Part Number: RC0805FR-07309KL; Alternate Part Number-1: NA; Case/Package: 0805; Supplier-1: SIRICOM; Supplier Part Number-1: WR08X3301FTL
footprint RES_0805 (Resister)
pins: 1, 2

## RES_330K-0.1W-1%-0603
designator R?, comment 330K
330 kOhms ±1% 0.1W, 1/10W Chip Resistor 0603 (1608 Metric) Automotive AEC-Q200 Thick Film; Manufacturer: Walsin; Manufacturer Part Number: WR06X3303FTL; Alternate Part Number-1: 0603WAF3303T5E; Case/Package: 0603; Supplier-1: SIRICOM; Supplier Part Number-1: WR06X3303FTL
footprint RES_0603
pins: 1, 2

## RES_330K-0.5W-5%-TH
designator R?, comment 330K
330 kOhms ±5% 0.5W, 1/2W Through Hole Resistor Axial Flame Retardant Coating, High Voltage, Pulse Withstanding, Safety Metal Film; Manufacturer: Yageo; Manufacturer Part Number: HVR3700003303JR500; Alternate Part Number-1: NA; Case/Package: TH; Supplier-1: SP ROAD; Supplier Part Number-1: HVR3700003303JR500
footprint RES_539.3_TH
pins: 1, 2

## RES_330R-0.1W-1%-0603
designator R?, comment 330R
330 Ohms ±1% 0.1W, 1/10W Chip Resistor 0603 (1608 Metric) Automotive AEC-Q200, Moisture Resistant Thick Film; Manufacturer: Walsin; Manufacturer Part Number: WR06X3300FTL; Case/Package: 0603; Supplier-1: SIRICOM; Supplier Part Number-1: WR06X3300FTL; Alternate Part Number-1: WR06X3300FTL
footprint RES_0603
pins: 1, 2

## RES_330R-0.125W-1%-0805
designator R?, comment 330R
330 Ohms ±1% 0.125W, 1/8W Chip Resistor 0805 (2012 Metric) Automotive AEC-Q200 Thick Film; Manufacturer: Walsin; Manufacturer Part Number: WR08X3300FTL; Alternate Part Number-1: NA; Case/Package: 0805; Supplier-1: SIRICOM; Supplier Part Number-1: WR08X3300FTL
footprint RES_0805
pins: 1, 2

## RES_430K-0.5W-5%-TH
designator R?, comment 430K
430 kOhms ±5% 0.5W, 1/2W Through Hole Resistor Axial Carbon Film; Manufacturer: Stackpole Electronics; Manufacturer Part Number: CFR-50JB-52-430K; Alternate Part Number-1: NA; Case/Package: TH; Supplier-1: SP ROAD; Supplier Part Number-1: CFR-50JB-52-430K
footprint RES_539.3_TH (Pitch 13.7mm)
pins: 1, 2

## RES_470R-0.25W-5%-TH
designator R?, comment 470R
470 Ohms ±5% 0.25W, 1/4W Through Hole Resistor Axial Flame Retardant Coating, Safety Carbon Film; Manufacturer: Vishay Dale Thin Film; Manufacturer Part Number: CF14JT470R; Alternate Part Number-1: NA; Case/Package: TH; Supplier-1: SP ROAD; Supplier Part Number-1: CF14JT470R
footprint RES_319_TH
pins: 1, 2

## RES_470R-0.125W-1%-0805
designator R?, comment 470R
470 Ohms ±1% 0.125W, 1/8W Chip Resistor 0805 (2012 Metric) Automotive AEC-Q200 Thick Film; Manufacturer: Walsin; Manufacturer Part Number: WR08X4700FTL; Alternate Part Number-1: NA; Case/Package: 0805; Supplier-1: SIRICOM; Supplier Part Number-1: WR08X4700FTL
footprint RES_0805
pins: 1, 2

## RES_500R-0.125W-5%-0805
designator R?, comment 500R
500 Ohms ±5% 0.125W, 1/8W Chip Resistor 0805 (2012 Metric) Automotive AEC-Q200 Thick Film; Manufacturer: Rohm; Manufacturer Part Number: CRCW0805500RJNTA; Alternate Part Number-1: NA; Case/Package: 0805; Supplier-1: SIRICOM; Supplier Part Number-1: WR08X4990FTL
footprint RES_0805
pins: 1, 2

## RES_510R-0.125W-1%-0805
designator R?, comment 510R
510 Ohms ±1% 0.125W, 1/8W Chip Resistor 0805 (2012 Metric) Thin Film; Manufacturer: Yageo; Manufacturer Part Number: RT0805FRE07510RL; Alternate Part Number-1: NA; Case/Package: 0805; Supplier-1: SIRICOM; Supplier Part Number-1: WR08X5100FTL
footprint RES_0805
pins: 1, 2

## RES_523K-0.125W-1%-0805
designator R?, comment 523K
523 kOhms ±1% 0.125W, 1/8W Chip Resistor 0805 (2012 Metric) Moisture Resistant Thick Film; Manufacturer: Yageo; Manufacturer Part Number: RC0805FR-07523KL; Alternate Part Number-1: NA; Case/Package: 0805; Supplier-1: Arrow; Supplier Part Number-1: RC0805FR-07523KL
footprint RES_0805 (Resister)
pins: 1, 2

## RES_560R-0.125W-1%-0805
designator R?, comment 560R
560 Ohms ±1% 0.125W, 1/8W Chip Resistor 0805 (2012 Metric) Automotive AEC-Q200 Thick Film; Manufacturer: Walsin; Manufacturer Part Number: WR08X5600FTL; Alternate Part Number-1: NA; Case/Package: 0805; Supplier-1: SIRICOM; Supplier Part Number-1: WR08X5600FTL
footprint RES_0805
pins: 1, 2

## RES_600R-0.1W-1%-0805
designator R?, comment 600R
RES 600 OHM 1% 1/5W 0805; Manufacturer Part Number: MCU08050C6000FP500; Manufacturer: Vishay Beyschlag/Draloric/BC Components; Alternate Part Number: NA; Case/Package: 0805; Supplier-1: Digikey; Supplier Part Number: MCU08050C6000FP500-ND - Tape & Reel (TR)
footprint RES_0805 (Resister)
pins: 1, 2

## RES_750R-0.1W-1%-0603
designator R?, comment 750R
750 ±1% 0.1W, 1/10W Chip Resistor 0603 (1608 Metric) Moisture Resistant Thick Film; Manufacturer Part Number: CR0603-FX-7500ELF; Manufacturer: Bourns Inc.; Alternate Part Number: NA; Case/Package: 0603; Supplier-1: Digikey; Supplier Part Number-1: CR0603-FX-7500ELFCT-ND - Cut Tape (CT)
footprint RES_0603 (CASE: 0603)
pins: 1, 2

## RLY2_5V-7.5A
designator RL?, comment JQC-3F-5VDC
5V DC RELAY 2 CHANNEL; Manufacturer: YUEQING HENGWEI ELECTRONICS; Alternate Part Number-1: NA; Manufacturer Part Number: JQC-3F-5VDC; Case/Package: RLY_JQC-3F-5DC; Supplier-1: SP ROAD; Supplier Part Number-1: JQC-3F-5VDC
footprint RLY_JQC_3F_5VDC
pins: 1, 2, 3, 4, 5

## RLY2_5V_10A
designator RL?, comment JQC-3FC T73 DC5V
SPDT relays covers switching capacity of 10A in spite of miniature size for PCB Mount.; Manufacturer: YUEQING HENGWEI ELECTRONICS; Alternate Part Number-1: NA; Manufacturer Part Number: JQC-3FC T73 DC5V; Case/Package: TH; Supplier-1: SP ROAD; Supplier Part Number-1: JQC-3FC T73 DC5V
footprint RLY_JQC_3F_5VDC (CASE: TH)
pins: 1, 2, 3, 4, 5

## RT_1.3OHM-TH
designator RT?, comment CL-21
Inrush Current Limiter 1.3 Ohms ±25% 8A 0.550" (13.97mm); Manufacturer: Amphenol; Alternate Part Number-1: NA; Manufacturer Part Number: CL-21; Case/Package: Radial-TH; Supplier-1: MOUSER; Supplier Part Number-1: CL-21
footprint RES_334_157X287_RAD_TH (CASE: TH)
pins: 1, 2
text: -t

## RT_2.5OHM-TH
designator RT?, comment A15SP7
NTC PTC A15SP 2.5R 2.5 European diameter 15mm negative temperature thermistor; Manufacturer: Rundahang Electronics; Alternate Part Number-1: NA; Manufacturer Part Number: A15SP7; Case/Package: Radial TH; Supplier-1: SP ROAD; Supplier Part Number-1: A15SP7
footprint A15SP7_295_98X118_TH (NTC)
pins: 1, 2
text: -t

## RT_5OHM-TH
designator RT?, comment CL-40
Inrush Current Limiter 5 Ohms ±25% 6A 0.770" (19.56mm); Manufacturer: Amphenol; Alternate Part Number-1: NA; Manufacturer Part Number: CL-40; Case/Package: Radial-TH; Supplier-1: ARROW; Supplier Part Number-1: CL-40
footprint CL-40_347_118X1557_TH (NTC)
pins: 1, 2
text: -t

## RT_10K-0805
designator RT?, comment 10K
NTC Thermistor 10k 0805 (2012 Metric); Manufacturer: Vishay BCcomponents; Manufacturer Part Number: NCP21XV103J03RA; Alternate Part Number-1: NA; Case/Package: 0805; Supplier-1: ARROW; Supplier Part Number-1: NCP21XV103J03RA
footprint RES_0805
pins: 1, 2
text: -t

## RT_100K-0805
designator RT?, comment 100K
NTC Thermistor 100k 0805 (2012 Metric); Manufacturer: Murata; Manufacturer Part Number: NTCS0805E3104JMT; Alternate Part Number-1: NA; Case/Package: 0805; Supplier-1: ARROW; Supplier Part Number-1: NTCS0805E3104JMT
footprint RES_0805
pins: 1, 2
text: -t

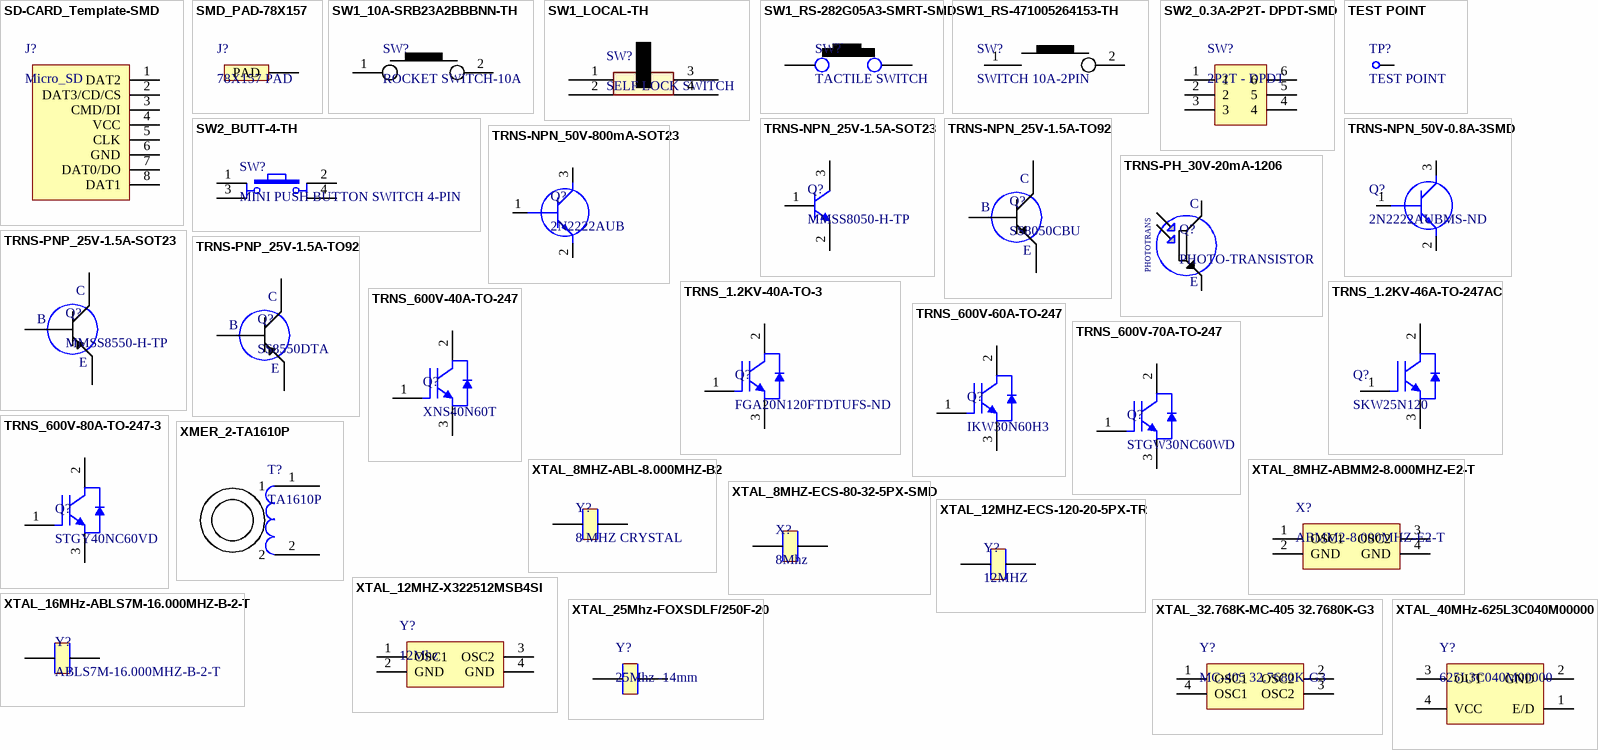
[diagram p16: symbols SD-CARD_Template-SMD to XTAL_40MHz-625L3C040M00000]

## SD-CARD_Template-SMD
designator J?, comment Micro_SD
SD-CARD TEMPLATE; Manufacturer: NA; Manufacturer Part Number: NA; Case/Package: SMD; Supplier-1: NA; Supplier Part Number-1: NA; Alternate Part Number-1: NA
footprint SD-CARD_Template_SMD (SD-CARD TEMPLATE)
pins: 1 DAT2, 2 DAT3/CD/CS, 3 CMD/DI, 4 VCC, 5 CLK, 6 GND, 7 DAT0/DO, 8 DAT1

## SMD_PAD-78X157
designator J?, comment 78X157 PAD
SMD Pad of 2mm x 4mm 1 pin; Manufacturer: NA; Manufacturer Part Number: NA; Case/Package: SMD; Supplier-1: NA; Supplier Part Number-1: NA; Alternate Part Number-1: NA
footprint SMD-PAD_78X157 (SMD PAD)
pins: 1 PAD

## SW1_10A-SRB23A2BBBNN-TH
designator SW?, comment ROCKET SWITCH-10A
Rocker Switch SPDT 10A (AC) 125V Panel Mount, Snap-In; Manufacturer: ITT C&K; Manufacturer Part Number: SRB23A2BBBNN; Alternate Part Number-1: NA; Case/Package: TH; Supplier-1: SP ROAD; Supplier Part Number-1: SRB23A2BBBNN
footprint SW_2ARS_TH
pins: 1, 2

## SW1_LOCAL-TH
designator SW?, comment SELF LOCK SWITCH
6 Pin DPDT Mini Push Button Self-locking Switch Multimeter Switch; Manufacturer Part Number: NA; Case/Package: TH; Manufacturer: NA; Supplier-1: SP ROAD; Supplier Part Number-1: NA; Alternate Part Number-1: NA
footprint SW_70_31.5D47_TH_ST
pins: 1, 2, 3, 4

## SW1_RS-282G05A3-SMRT-SMD
designator SW?, comment TACTILE SWITCH
Tactile Switch SPST-NO Top Actuated Surface Mount; Manufacturer: ITT C&K; Manufacturer Part Number: RS-282G05A3-SMRT; Alternate Part Number-1: NA; Case/Package: SMD; Supplier-1: SP ROAD; Supplier Part Number-1: RS-282G05A3-SMRT
footprint SW_342_SMD
pins: 1, 2

## SW1_RS-471005264153-TH
designator SW?, comment SWITCH 10A-2PIN
Rocker Switch SPST 16A (AC), 10A (DC) 250V Panel Mount, Snap-In; Manufacturer: Würth Elektronik; Manufacturer Part Number: 471005264153; Alternate Part Number-1: NA; Case/Package: TH; Supplier-1: Würth Elektronik; Supplier Part Number-1: 471005264153
footprint SW_2ARS_TH
pins: 1, 2

## SW2_0.3A-2P2T- DPDT-SMD
designator SW?, comment 2P2T - DPDT
PCB Mountable Slide Switch. Double Pole, Double Throw = DPDT; Manufacturer: NA; Manufacturer Part Number: NA; Supplier-1: Sunrom; Supplier Part Number-1: 5261; Case/Package: SMD; Alternate Part Number-1: NA
footprint SW_2P2T-DPDT_SMD (PCB Mountable Slide Switch. Double Pole, Double Throw = DPDT)
signal-integrity model Model Name (Model Description)
signal-integrity model Model Name (Model Description)
simulation model Model Name (Model Description)
ibis Model Name (Model Description)
signal-integrity model Model Name (Model Description)
pins: 1, 2, 3, 4, 5, 6

## SW2_BUTT-4-TH
designator SW?, comment MINI PUSH BUTTON SWITCH 4-PIN
Tactile Switches MINI PUSH BUTTON SWITCH 4-PIN QTY. 4; Manufacturer: Gravitech; Manufacturer Part Number: BUTT-4; Alternate Part Number-1: NA; Case/Package: TH; Supplier-1: SP ROAD; Supplier Part Number-1: BUTT-4
footprint SW_70_31.5D47_TH_ST
pins: 1, 2, 3, 4

## TEST POINT
designator TP?
0.4mm hole size Test point; Manufacturer Part Number: NA; Case/Package: TH; Manufacturer: NA; Supplier-1: NA; Supplier Part Number-1: NA; Alternate Part Number-1: NA
footprint TEST POINT_30
footprint TEST POINT_78
footprint TEST POINT_15.7 (0.4mm Test Point)
pins: 1

## TRNS-NPN_25V-1.5A-SOT23
designator Q?, comment MMSS8050-H-TP
Bipolar (BJT) Transistor NPN 25V 1.5A 100MHz 625mW Surface Mount SOT-23; Manufacturer: MCC; Alternate Part Number-1: NA; Manufacturer Part Number: MMSS8050-H-TP; Case/Package: SOT-23; Supplier-1: MOUSER; Supplier Part Number-1: MMSS8050-H-TP
footprint SOT 23-3 (Case: SOT23)
pins: 1 B, 2 E, 3 C

## TRNS-NPN_25V-1.5A-TO92
designator Q?, comment SS8050CBU
Bipolar (BJT) Transistor NPN 25V 1.5A 100MHz 1W Through Hole TO-92-3; Manufacturer: ON Semiconductor / Fairchild; Alternate Part Number-1: NA; Manufacturer Part Number: SS8050CBU; Case/Package: TO-92; Supplier-1: ARROW; Supplier Part Number-1: SS8050CBU
footprint TO-92_102_31D47_TH
pins: 1, 2, 3
text: C; B; E

## TRNS-NPN_50V-0.8A-3SMD
designator Q?, comment 2N2222AUBMS-ND
Bipolar (BJT) Transistor NPN 50V 800mA 500mW Surface Mount 3-SMD; Manufacturer: Microsemi; Alternate Part Number-1: NA; Manufacturer Part Number: 2N2222AUB; Case/Package: SOT23-3; Supplier-1: MOUSER; Supplier Part Number-1: 2N2222AUB
footprint SOT 23-3 (Case: SOT23)
pins: 1 B, 2 E, 3 C

## TRNS-NPN_50V-800mA-SOT23
designator Q?, comment 2N2222AUB
Bipolar (BJT) Transistor NPN 50V 800mA 300mW Surface Mount 4-CLCC (3.05x2.415); Manufacturer: Microsemi; Alternate Part Number-1: NA; Manufacturer Part Number: 2N2222AUB; Case/Package: SOT23-3; Supplier-1: Arrow; Supplier Part Number-1: 2N2222AUB
footprint SOT 23-3 (Case: SOT23)
pins: 1 B, 2 E, 3 C

## TRNS-PH_30V-20mA-1206
designator Q?, comment PHOTO-TRANSISTOR
Phototransistor 940nm Top View 1206 (3216 Metric); Manufacturer: Wurth Electronics; Manufacturer Part Number: 1541201NEA400; Alternate Part Number-1: NA; Case/Package: 1206; Supplier-1: MOUSER; Supplier Part Number-1: 1541201NEA400
footprint RES_1206
pins: 1, 2
text: C; PHOTOTRANS; E

## TRNS-PNP_25V-1.5A-SOT23
designator Q?, comment MMSS8550-H-TP
Bipolar (BJT) Transistor PNP 25V 1.5A 100MHz 625mW Surface Mount SOT-23; Manufacturer: MCC; Alternate Part Number-1: NA; Manufacturer Part Number: MMSS8550-H-TP; Case/Package: SOT-23; Supplier-1: ARROW; Supplier Part Number-1: MMSS8550-H-TP
footprint SOT 23-3
pins: 1, 2, 3
text: C; B; E

## TRNS-PNP_25V-1.5A-TO92
designator Q?, comment SS8550DTA
Bipolar (BJT) Transistor PNP 25V 1.5A 200MHz 1W Through Hole TO-92-3; Manufacturer: ON Semiconductor / Fairchild; Alternate Part Number-1: NA; Manufacturer Part Number: SS8550DTA; Case/Package: TO-92-3; Supplier-1: ARROW; Supplier Part Number-1: SS8550DTA
footprint TO-92_102_31D47_TH
pins: 1, 2, 3
text: C; B; E

## TRNS_1.2KV-40A-TO-3
designator Q?, comment FGA20N120FTDTUFS-ND
IGBT Trench Field Stop 1200V 40A 298W Through Hole TO-3P; Manufacturer: ON Semiconductor / Fairchild; Alternate Part Number-1: NA; Manufacturer Part Number: FGA20N120FTDTU; Case/Package: TO-247-3; Supplier-1: ARROW; Supplier Part Number-1: FGA20N120FTDTU
footprint TO-3-PN_216-95D95_TH
pins: 1 G, 2 C, 3 E

## TRNS_1.2KV-46A-TO-247AC
designator Q?, comment SKW25N120
IGBT NPT 1200V 46A 313W Through Hole PG-TO247-3; Manufacturer: Infineon; Alternate Part Number-1: NA; Manufacturer Part Number: SKW25N120; Case/Package: TO-247-3; Supplier-1: ARROW; Supplier Part Number-1: SKW25N120
footprint TO-247_216_55D137_TH_BENT_HEATSINK
pins: 1 G, 2 C, 3 E

## TRNS_600V-40A-TO-247
designator Q?, comment XNS40N60T
IGBTs Field Stop 600V 40A TO-247 RoHS; Manufacturer: XINER; Alternate Part Number-1: NA; Manufacturer Part Number: XNS40N60T; Case/Package: TO-247; Supplier-1: LCSC; Supplier Part Number-1: C379747
footprint TO-247_216_55D137_TH_BENT_HEATSINK
pins: 1 G, 2 C, 3 E

## TRNS_600V-60A-TO-247
designator Q?, comment IKW30N60H3
IGBT Trench Field Stop 600V 60A 187W Through Hole PG-TO247-3; Manufacturer: Infineon; Manufacturer Part Number: IKW30N60H3FKSA1; Alternate Part Number-1: NA; Case/Package: TO-247; Supplier-1: ARROW; Supplier Part Number-1: IKW30N60H3FKSA1
footprint TO-247_216_55D137_TH_BENT_HEATSINK
pins: 1 G, 2 C, 3 E

## TRNS_600V-70A-TO-247
designator Q?, comment STGW30NC60WD
IGBT 600V 70A 250W Through Hole TO-247-3; Manufacturer: STMicroelectronics; Manufacturer Part Number: STGW45HF60WD; Alternate Part Number-1: NA; Case/Package: TO-247; Supplier-1: RS COMP; Supplier Part Number-1: STGW45HF60WD
footprint TO-247_216_55D137_TH_BENT_HEATSINK
pins: 1 G, 2 C, 3 E

## TRNS_600V-80A-TO-247-3
designator Q?, comment STGY40NC60VD
IGBT 600V 80A 260W Through Hole MAX247™; Manufacturer: STMicroelectronics; Alternate Part Number-1: NA; Manufacturer Part Number: STGY40NC60VD; Case/Package: TO-247-3; Supplier-1: MOUSER; Supplier Part Number-1: STGY40NC60VD
footprint TO-247_216_55D137_TH_BENT_HEATSINK
footprint TO-247_216_55D137_TH_NH
footprint TO-247_216_55D137_TH_BENT (IGBT)
pins: 1 G, 2 C, 3 E

## XMER_2-TA1610P
designator T?, comment TA1610P
Current sense Transformer; Manufacturer: Coilcraft; Alternate Part Number-1: NA; Manufacturer Part Number: TA1610P; Case/Package: TH; Supplier-1: Aliexpress; Supplier Part Number-1: TA1610P
footprint XMER_TA1610P_TH
pins: 1, 2

## XTAL_8MHZ-ABL-8.000MHZ-B2
designator Y?, comment 8 MHZ CRYSTAL
8MHz ±20ppm Crystal 18pF 80 Ohms HC-49/US; Manufacturer: Yangxing Tech; Manufacturer Part Number: ABL-8.000MHZ-B2; Alternate Part Number-1: NA; Case/Package: TH; Supplier-1: SP ROAD; Supplier Part Number-1: ABL-8.000MHZ-B2
footprint XTAL_193_184X455_TH
pins: 1, 2

## XTAL_8MHZ-ABMM2-8.000MHZ-E2-T
designator X?, comment ABMM2-8.000MHZ-E2-T
8MHz ±20ppm Crystal 18pF 72 Ohms 4-SMD, No Lead; Manufacturer: Abracon; Alternate Part Number-1: NA; Manufacturer Part Number: ABMM2-8.000MHZ-E2-T; Case/Package: SMD/SMT; Supplier-1: TANOTIS; Supplier Part Number-1: ABMM2-8.000MHZ-E2-T
footprint ABMM2_94.4_267_71X55_SMD (XTAL)
pins: 1 OSC1, 2 GND, 3 OSC2, 4 GND

## XTAL_8MHZ-ECS-80-32-5PX-SMD
designator X?, comment 8Mhz
8MHz ±30ppm Crystal 32pF 60 Ohms HC-49/US; Manufacturer: Fox Electronics; Manufacturer Part Number: ECS-80-32-5PX-TR; Alternate Part Number-1: NA; Case/Package: SMD/SMT; Supplier-1: SP ROAD; Supplier Part Number-1: ECS-80-32-5PX-TR
footprint XTAL_314_240X47_SMD (CASE: TH)
pins: 1, 2

## XTAL_12MHZ-ECS-120-20-5PX-TR
designator Y?, comment 12MHZ
12MHz ±30ppm Crystal 20pF 50 Ohms HC-49/US; Manufacturer: ECS International; Manufacturer Part Number: ECS-120-20-5PX-TR; Alternate Part Number-1: NA; Case/Package: SMD/SMT; Supplier-1: ARROW; Supplier Part Number-1: ECS-120-20-5PX-TR
footprint XTAL_314_240X47_SMD (CASE: TH)
pins: 1, 2

## XTAL_12MHZ-X322512MSB4SI
designator Y?, comment 12Mhz
12MHz ±10ppm 20pF 80Ω SMD-3225_4P SMD Crystal Resonators RoHS; Manufacturer Part Number: X322512MSB4SI; Manufacturer: CTS; Alternate Part Number-1: NA; Case/Package: SMD; Supplier-1: ARROW; Supplier Part Number-1: X322512MSB4SI
footprint 3225_4P_67_157_55x47_SMD (XTAL)
pins: 1 OSC1, 2 GND, 3 OSC2, 4 GND

## XTAL_16MHz-ABLS7M-16.000MHZ-B-2-T
designator Y?, comment ABLS7M-16.000MHZ-B-2-T
16MHz ±20ppm Crystal 18pF 60 Ohms 2-SMD, Flat Lead; Manufacturer: Abracon; Alternate Part Number-1: NA; Manufacturer Part Number: ABLS7M-16.000MHZ-B-2-T; Case/Package: SMD; Supplier-1: ARROW; Supplier Part Number-1: ABLS7M-16.000MHZ-B-2-T
footprint XTAL_314_240X47_SMD
pins: 1, 2

## XTAL_25Mhz-FOXSDLF/250F-20
designator Y?, comment 25Mhz -14mm
25MHz ±30ppm Crystal 20pF 30 Ohms HC-49/US; Manufacturer: Abracon; Manufacturer Part Number: FOXSDLF/250F-20; Alternate Part Number-1: NA; Case/Package: SMD; Supplier-1: MOUSER; Supplier Part Number-1: FOXSDLF/250F-20
footprint XTAL_314_240X47_SMD
pins: 1, 2

## XTAL_32.768K-MC-405 32.7680K-G3
designator Y?, comment MC-405 32.7680K-G3
32.768kHz ±100ppm Crystal 20pF 50 kOhms 4-SOJ, 5.50mm pitch; Manufacturer: EPSON; Alternate Part Number-1: MC-405 32.7680K-AC0: ROHS; Manufacturer Part Number: MC-405 32.7680K-G3; Case/Package: 4-SOJ; Supplier-1: Mouser; Supplier Part Number-1: 732-MC405327680KG3RS
footprint XTAL_125_74X51_SMD
pins: 1 OSC1, 2 OSC2, 3 OSC2, 4 OSC1

## XTAL_40MHz-625L3C040M00000
designator Y?, comment 625L3C040M00000
40MHz XO (Standard) CMOS Oscillator 3.3V Enable/Disable 4-SMD, No Lead; Manufacturer: ECS International; Alternate Part Number-1: NA; Manufacturer Part Number: 625L3C040M00000; Case/Package: SMD/SMT; Supplier-1: MOUSER; Supplier Part Number-1: 625L3C040M00000
footprint XTAL_63_39X47_SMD (SMD CRYSTAL)
pins: 1 E/D, 2 GND, 3 OUT, 4 VCC